# Altium footprint library SBC-2410X-.PCBLIB: 37 footprints (part 3 of 3)
Each footprint in its own frame and in the unit in brackets; x right, y up, seen from the top. Pads: shape width x height; smd on the part's side, far side on the other; paste and mask are expansions set on the pad; w line width, h text height; cw(c..) or ccw(c..) is an arc to the next point about the centre after c.
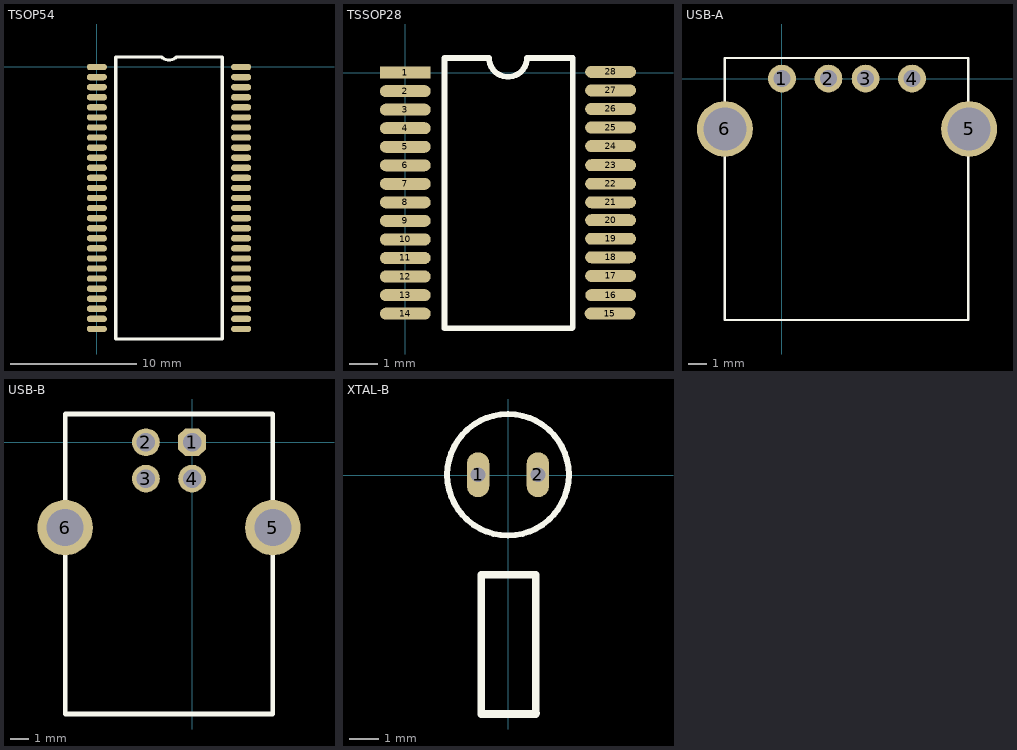
[diagram p2: the footprints below, top view; thin cyan lines are the x and y axes]

## TSOP54 [mm]
pads (54):
  oval 1.6x0.5 smd: 1(0.006,-0.007) 2(0.006,-0.807) 3(0.006,-1.607) 4(0.006,-2.407) 5(0.006,-3.207) 6(0.006,-4.007) 7(0.006,-4.807) 8(0.006,-5.607) 9(0.006,-6.407) 10(0.006,-7.207) 11(0.006,-8.007) 12(0.006,-8.807) 13(0.006,-9.607) 14(0.006,-10.407) 15(0.006,-11.207) 16(0.006,-12.007) 17(0.006,-12.807) 18(0.006,-13.607) 19(0.006,-14.407) 20(0.006,-15.207) 21(0.006,-16.007) 22(0.006,-16.807) 23(0.006,-17.607) 24(0.006,-18.407) 25(0.006,-19.207) 26(0.006,-20.007) 27(0.006,-20.807) 28(11.466,-20.807) 29(11.466,-20.007) 30(11.466,-19.207) 31(11.466,-18.407) 32(11.466,-17.607) 33(11.466,-16.807) 34(11.466,-16.007) 35(11.466,-15.207) 36(11.466,-14.407) 37(11.466,-13.607) 38(11.466,-12.807) 39(11.466,-12.007) 40(11.466,-11.207) 41(11.466,-10.407) 42(11.466,-9.607) 43(11.466,-8.807) 44(11.466,-8.007) 45(11.466,-7.207) 46(11.466,-6.407) 47(11.466,-5.607) 48(11.466,-4.807) 49(11.466,-4.007) 50(11.466,-3.207) 51(11.466,-2.407) 52(11.466,-1.607) 53(11.466,-0.807) 54(11.466,-0.007)
TopOverlay:
  lines w0.254: 1.506,-21.607 1.506,0.793 5.145,0.793 ccw(c5.736,1.384) 6.327,0.793 9.966,0.793 9.966,-21.607 1.506,-21.607

## TSSOP28 [mm]
pads (28):
  rect 1.78x0.42 smd: 1(-0.002,0.011)
  oval 1.78x0.42 smd: 2(-0.002,-0.639) 3(-0.002,-1.289) 4(-0.002,-1.939) 5(-0.002,-2.589) 6(-0.002,-3.239) 7(-0.002,-3.889) 8(-0.002,-4.539) 9(-0.002,-5.189) 10(-0.002,-5.839) 11(-0.002,-6.489) 12(-0.002,-7.139) 13(-0.002,-7.789) 14(-0.002,-8.439) 15(7.173,-8.439) 16(7.198,-7.789) 17(7.194,-7.114) 18(7.194,-6.464) 19(7.194,-5.814) 20(7.194,-5.164) 21(7.194,-4.536) 22(7.194,-3.886) 23(7.194,-3.236) 24(7.194,-2.564) 25(7.194,-1.914) 26(7.194,-1.264) 27(7.194,-0.614) 28(7.194,0.036)
TopOverlay:
  lines w0.204: 5.837,-8.953 1.368,-8.953 1.368,0.525 2.933,0.525 ccw(c3.598,0.525) 4.262,0.525 5.868,0.525 5.868,-7.75 5.868,-8.922

## USB-A [mm]
pads (6):
  round 1.5 hole 0.92: 1(0.004,0.013) 2(2.504,0.013) 3(4.504,0.013) 4(7.004,0.013)
  round 3 hole 2.3: 5(10.074,-2.697) 6(-3.066,-2.697)
TopOverlay:
  lines w0.127: -3.066,-12.977 10.034,-12.977 10.034,1.123 -3.066,1.123 -3.066,-2.697 -3.066,-12.977

## USB-B [mil]
pads (6):
  oct 60x60 hole 40: 1(0.02,-0.17)
  round 60 hole 40: 2(-99.98,-0.17) 3(-99.98,-78.91) 4(0.02,-78.91)
  round 120 hole 80: 5(175.02,-185.2) 6(-274.98,-185.2)
TopOverlay:
  lines w10: -274.98,-588.91 -274.98,61.09 175.02,61.09 175.02,-588.91 -274.98,-588.91

## XTAL-B [mm]
pads (2):
  oval 0.75x1.5 hole 0.5: 1(-1.011,0.008) 2(0.989,0.008)
TopOverlay:
  circle w0.254: c-0.911,-7.992 r0
  circle w0.254: c0.914,-7.992 r0
  circle w0.2: c-0.011,0.008 r2.032
  circle w0.254: c-0.911,-3.342 r0
  circle w0.254: c0.914,-3.342 r0
  lines w0.254: 0.939,-7.967 0.914,-7.992 ; 0.914,-7.992 -0.911,-7.992 -0.911,-3.342 0.914,-3.342 0.914,-7.992